# EAGLE library part MC14013BDG (library on-semiconductor-01)
Dual Type D Flip-Flop
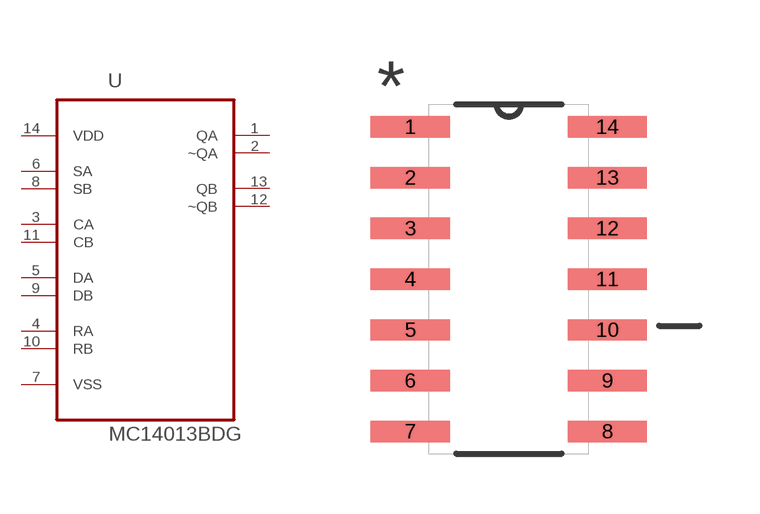
[diagram p204: symbol with the pads of SOIC127P600X175-14N; footprint SOIC127P600X175-14N]

Designator prefix U

## MC14013BDG (MPN: MC14013BDG; OC_FARNELL: 9666320; OC_NEWARK: 45J1018; PACKAGE: SOIC-14; SUPPLIER: ON SEMICONDUCTOR)  [SOIC127P600X175-14N]
1  QA  out
2  ~QA  out
3  CA  in
4  RA  in
5  DA  in
6  SA  in
7  VSS  pas
8  SB  in
9  DB  in
10  RB  in
11  CB  in
12  ~QB  out
13  QB  out
14  VDD  pwr

## Footprint SOIC127P600X175-14N (pad centres in mm)
smd 1.981 x 0.533: 1 -2.464,3.81; 2 -2.464,2.54; 3 -2.464,1.27; 4 -2.464,0; 5 -2.464,-1.27; 6 -2.464,-2.54; 7 -2.464,-3.81; 8 2.464,-3.81; 9 2.464,-2.54; 10 2.464,-1.27; 11 2.464,0; 12 2.464,1.27; 13 2.464,2.54; 14 2.464,3.81